# Altium schematic symbol library SSCI_Nov-27.SchLib: 2 symbols
Pins are listed as number, name and electrical type; pins without a type are passive.

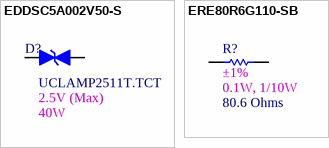
[diagram p0: symbols EDDSC5A002V50-S to ERE80R6G110-SB]

## EDDSC5A002V50-S
designator D?, comment value UCLAMP2511T.TCT  2nd Auxiliary Field: 40W  1st Auxiliary Field: 2.5V (Max)  (hidden comment: TVS DIODE 2.5V 8V SLP1006P2T)
Manufacturer: Semtech Corporation; Internal Part Number: EDDSC5A002V50-S; Vendor Part Number: UCLAMP2511TTCTCT-ND; Component Height (mm): 0.43mm; 3rd Auxiliary Field: RoHS Compliant; 4th Auxiliary Field: 5A (8/20µs); Vendor Name: Digi-Key; Temp Co: -40°C ~ 85°C (TJ); Part Type: TVS DIODE 2.5V 8V SLP1006P2T; Manufacturer Part Number: UCLAMP2511T.TCT
footprint DFN65P100X43-2N-BI (DFN, 2-Leads, Body 0.60x1.00mm, Pitch 0.65mm, IPC Medium Density)
pins: 1, 2

## ERE80R6G110-SB
designator R?, comment value 80.6 Ohms  2nd Auxiliary Field: ±1%  1st Auxiliary Field: 0.1W, 1/10W  (hidden comment: RES SMD 80.6 OHM 1% 1/10W 0402)
Manufacturer: Panasonic Electronic Components; Vendor Part Number: P80.6LCT-ND; Manufacturer Part Number: ERJ-2RKF80R6X; Internal Part Number: ERE80R6G110-SB; Vendor Name: Digi-Key; 3rd Auxiliary Field: ROHS3 Compliant; 4th Auxiliary Field: AEC-Q200; Component Height (mm): 0.40mm; Temp Co: -55°C ~ 155°C; Part Type: RES SMD 80.6 OHM 1% 1/10W 0402
footprint SMDR0402
pins: 1, 2